# Altium footprint library CONBNC002.PcbLib: 1 footprints
Each footprint in its own frame and in the unit in brackets; x right, y up, seen from the top. Pads: shape width x height; smd on the part's side, far side on the other; paste and mask are expansions set on the pad; w line width, h text height; cw(c..) or ccw(c..) is an arc to the next point about the centre after c.
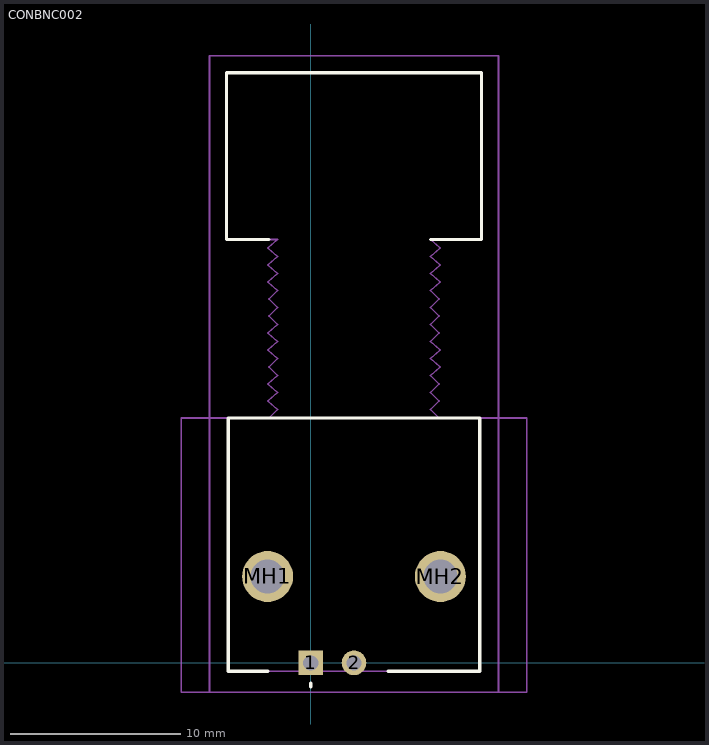
[diagram p0: the footprint, top view; thin cyan lines are the x and y axes]

## CONBNC002 [mm]
pads (4):
  rect 1.446x1.446 hole 0.89: 1(0,0)
  round 1.446 hole 0.89: 2(2.54,0)
  round 3 hole 2: MH1(-2.54,5.08) MH2(7.62,5.08)
Top Overlay:
  lines w0.2: -2.54,-0.5 -4.86,-0.5 -4.86,14.4 9.94,14.4 9.94,-0.5 4.54,-0.5 ; -2.46,24.9 -4.96,24.9 -4.96,34.7 10.04,34.7 10.04,24.9 7.54,24.9 7.04,24.9 ; 0,-1.4 0,-1.2 0,-1.4
Mechanical 15:
  lines w0.1: -2.46,14.4 -1.96,14.9 -2.54,15.4 -1.96,15.9 -2.54,16.4 -1.96,16.9 -2.46,17.4 -1.96,17.9 -2.54,18.4 -1.96,18.9 -2.54,19.4 -1.96,19.9 -2.46,20.4 -1.96,20.9 -2.46,21.4 -1.96,21.9 -2.54,22.4 -1.96,22.9 -2.54,23.4 -1.96,23.9 -2.54,24.4 -1.96,24.9 -4.96,24.9 -4.96,34.7 10.04,34.7 10.04,24.9 7.04,24.9 7.62,24.4 7.04,23.9 7.62,23.4 7.04,22.9 7.62,22.4 7.04,21.9 7.54,21.4 7.04,20.9 7.54,20.4 7.04,19.9 7.54,19.4 7.04,18.9 7.62,18.4 7.04,17.9 7.62,17.4 7.04,16.9 7.54,16.4 7.04,15.9 7.54,15.4 7.04,14.9 7.54,14.4 ; -4.86,-0.5 9.94,-0.5 9.94,14.4 -4.86,14.4 -4.86,-0.5
Mechanical 20:
  lines w0.1: -5.96,-1.723 11.04,-1.723 11.04,35.7 -5.96,35.7 -5.96,-1.723
Mechanical 21:
  lines w0.1: -7.62,-1.723 12.7,-1.723 12.7,14.4 -7.62,14.4 -7.62,-1.723